# EAGLE library part TA8273H (library Audio-Power-amlifier V.2.0)
The TA8273H is 4 ch BTL audio power amplifier for car audio application. This IC can generate more high power: POUTMAX = 47 W as it is included the pure complementary PNP and NPN transistor output stage. It is designed low distortion ratio for 4 ch BTL audio power amplifier, built-in stand-by function, muting function, and diagnosis circuit which can detect output to VCC/GND short, output offset voltage and over voltage input mode. Additionally, the AUX amplifier and various kind of protector for car audio use are built-in.
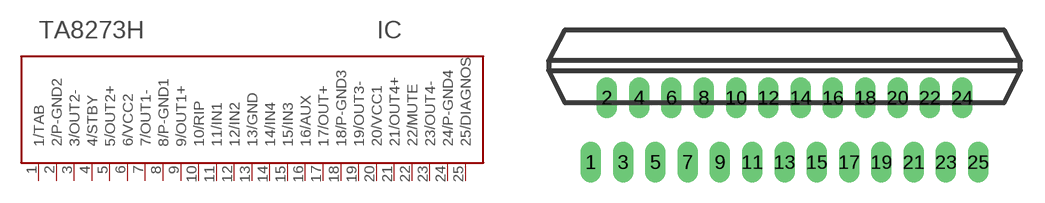
[diagram p164: symbol with the pads of HZIP25-P-1.00F; footprint HZIP25-P-1.00F]

Designator prefix IC

## TA8273H  [HZIP25-P-1.00F]
1  1/TAB
2  2/P-GND2  pwr
3  3/OUT2-  out
4  4/STBY  in
5  5/OUT2+  out
6  6/VCC2  pwr
7  7/OUT1-  out
8  8/P-GND1  pwr
9  9/OUT1+  out
10  10/RIP
11  11/IN1  in
12  12/IN2  in
13  13/GND  pwr
14  14/IN4  in
15  15/IN3  in
16  16/AUX  in
17  17/OUT+  out
18  18/P-GND3  pwr
19  19/OUT3-  out
20  20/VCC1  pwr
21  21/OUT4+  out
22  22/MUTE  in
23  23/OUT4-  out
24  24/P-GND4  pwr
25  25/DIAGNOS  out

## Footprint HZIP25-P-1.00F (pad centres in mm)
HZIP25-P-1.00F
drill 0.5 pad 1.27 long: 1 -12,-4; 2 -11,0; 3 -10,-4; 4 -9,0; 5 -8,-4; 6 -7,0; 7 -6,-4; 8 -5,0; 9 -4,-4; 10 -3,0; 11 -2,-4; 12 -1,0; 13 0,-4; 14 1,0; 15 2,-4; 16 3,0; 17 4,-4; 18 5,0; 19 6,-4; 20 7,0; 21 8,-4; 22 9,0; 23 10,-4; 24 11,0; 25 12,-4